# Altium schematic symbol library LM27762.SchLib: 1 symbol
Pins are listed as number, name and electrical type; pins without a type are passive.

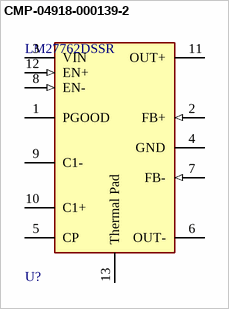
[diagram p0: symbol CMP-04918-000139-2]

## CMP-04918-000139-2
designator U?, comment LM27762DSSR
IC REG CHARGE PUMP ADJ DL 12WSON; Min Output Voltage: 1.5V; Max Input Voltage: 5.5V; Synchronous Rectifier: No; Output Type: Adjustable; Output Current: 250mA; Min Input Voltage: 2.7V; Quiescent Current: 390uA; Switching Frequency: 2.3MHz; Max Output Voltage: 5V; Topology: Charge Pump; Lead Free: Lead Free; Min Operating Temperature: -40°C; Max Operating Temperature: 85°C; RoHS Compliant: Yes; Packaging: Tape and Reel; Mount: Surface Mount
footprint FP-DSS0012B-MFG
pins: 1 PGOOD (oc), 2 FB+ (in), 3 VIN (power), 4 GND (power), 5 CP, 6 OUT-, 7 FB- (in), 8 EN- (in), 9 C1-, 10 C1+, 11 OUT+, 12 EN+ (in), 13 Thermal Pad